# EAGLE library part 68713214022 (library Eagle_FPC_CONNECTOR_AND_FFC_CAB (rev18c))
WR-FPC 0.5mm SMT ZIF Horizontal Top Contact, 32 Pins=>Code : Con_FPC_ZIF_0.50_68713214022 <http://katalog.we-online.de/media/images/eican/Con_FPC_ZIF_0.50_6871xx14022_pf2.jpg> Details see: http://katalog.we-online.de/en/em/687_1xx_140_22 Created 2014-07-09, Karrer Zheng 2014 (C) Würth Elektronik
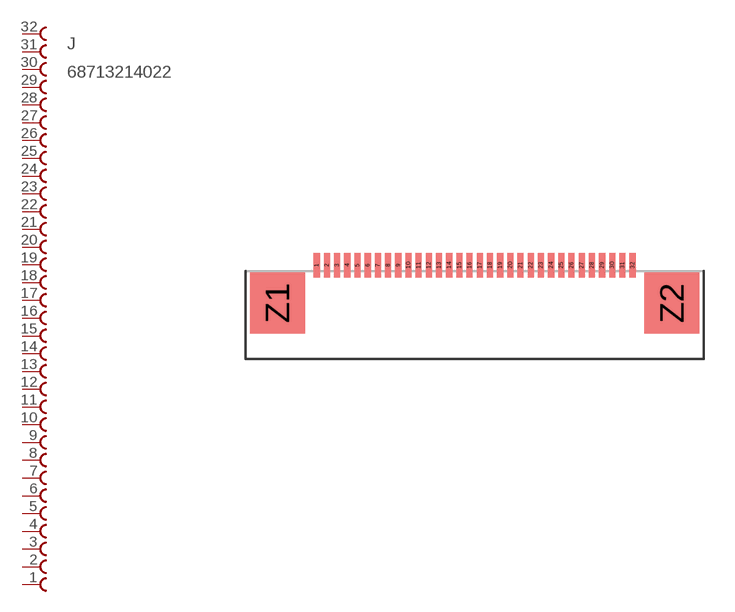
[diagram p31: symbol with the pads of 68713214022; footprint 68713214022]

Designator prefix J

## 68713214022  [68713214022]
1  32  pas
2  31  pas
3  30  pas
4  29  pas
5  28  pas
6  27  pas
7  26  pas
8  25  pas
9  24  pas
10  23  pas
11  22  pas
12  21  pas
13  20  pas
14  19  pas
15  18  pas
16  17  pas
17  16  pas
18  15  pas
19  14  pas
20  13  pas
21  12  pas
22  11  pas
23  10  pas
24  9  pas
25  8  pas
26  7  pas
27  6  pas
28  5  pas
29  4  pas
30  3  pas
31  2  pas
32  1  pas

## Footprint 68713214022 (pad centres in mm)
WR-FPC 0.5mm SMT ZIF Horizontal Top Contact, 32 Pins
smd 0.3 x 1.2: 1 -7.75,1.86; 2 -7.25,1.86; 3 -6.75,1.86; 4 -6.25,1.86; 5 -5.75,1.86; 6 -5.25,1.86; 7 -4.75,1.86; 8 -4.25,1.86; 9 -3.75,1.86; 10 -3.25,1.86; 11 -2.75,1.86; 12 -2.25,1.86; 13 -1.75,1.86; 14 -1.25,1.86; 15 -0.75,1.86; 16 -0.25,1.86; 17 0.25,1.86; 18 0.75,1.86; 19 1.25,1.86; 20 1.75,1.86; 21 2.25,1.86; 22 2.75,1.86; 23 3.25,1.86; 24 3.75,1.86; 25 4.25,1.86; 26 4.75,1.86; 27 5.25,1.86; 28 5.75,1.86; 29 6.25,1.86; 30 6.75,1.86; 31 7.25,1.86; 32 7.75,1.86
smd 2.7 x 3: Z1 -9.68,0; Z2 9.68,0